# EAGLE library part LED_DOTMATRIX (library kawaiti)
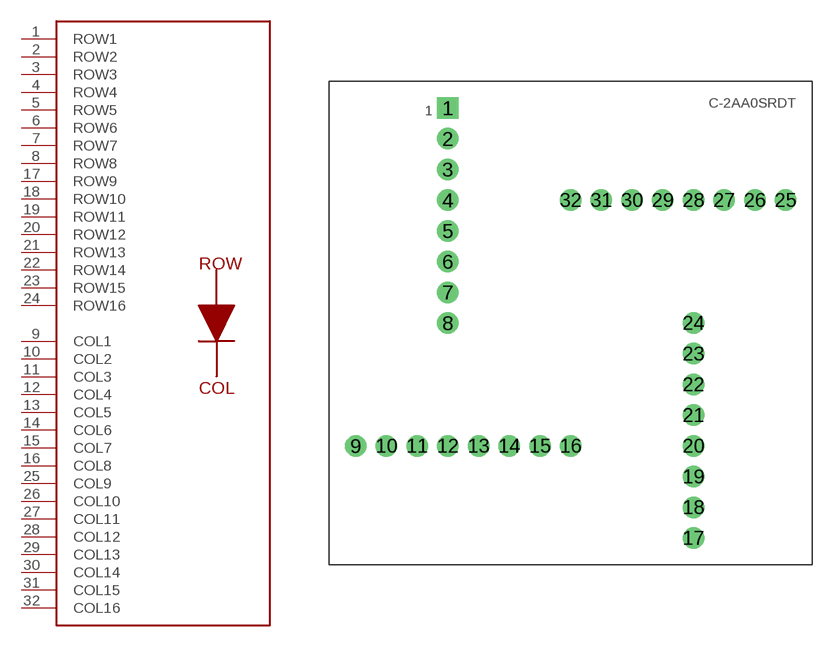
[diagram p8: symbol with the pads of C-2AA0SRDT; footprint C-2AA0SRDT]

Designator prefix LED

## LED_DOTMATRIX_C-2AA0SRDT  [C-2AA0SRDT]
1  ROW1
2  ROW2
3  ROW3
4  ROW4
5  ROW5
6  ROW6
7  ROW7
8  ROW8
9  COL1
10  COL2
11  COL3
12  COL4
13  COL5
14  COL6
15  COL7
16  COL8
17  ROW9
18  ROW10
19  ROW11
20  ROW12
21  ROW13
22  ROW14
23  ROW15
24  ROW16
25  COL9
26  COL10
27  COL11
28  COL12
29  COL13
30  COL14
31  COL15
32  COL16

## Footprint C-2AA0SRDT (pad centres in mm)
drill 1 pad 1.778 square: 1 -10.16,17.78
drill 1 pad 1.778: 2 -10.16,15.24; 3 -10.16,12.7; 4 -10.16,10.16; 5 -10.16,7.62; 6 -10.16,5.08; 7 -10.16,2.54; 8 -10.16,0; 9 -17.78,-10.16; 10 -15.24,-10.16; 11 -12.7,-10.16; 12 -10.16,-10.16; 13 -7.62,-10.16; 14 -5.08,-10.16; 15 -2.54,-10.16; 16 0,-10.16; 17 10.16,-17.78; 18 10.16,-15.24; 19 10.16,-12.7; 20 10.16,-10.16; 21 10.16,-7.62; 22 10.16,-5.08; 23 10.16,-2.54; 24 10.16,0; 25 17.78,10.16; 26 15.24,10.16; 27 12.7,10.16; 28 10.16,10.16; 29 7.62,10.16; 30 5.08,10.16; 31 2.54,10.16; 32 0,10.16